# Altium schematic symbol library MCU_NXP_ColdFire.SchLib: 6 symbols
Pins are listed as number, name and electrical type; pins without a type are passive.

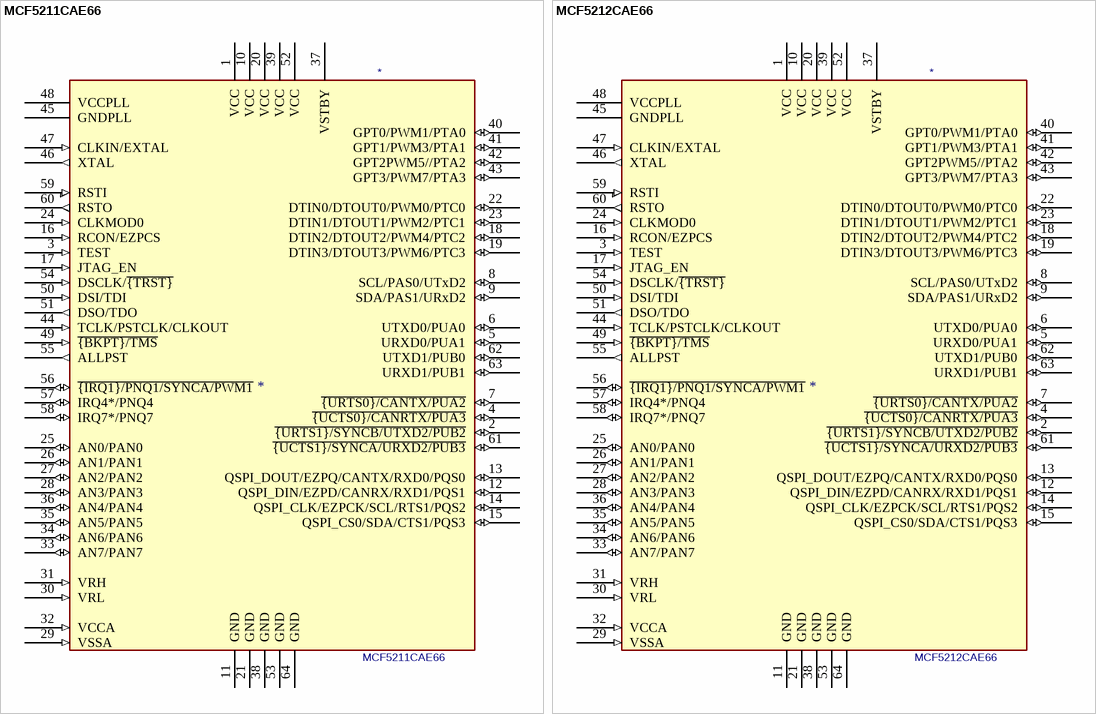
[diagram p0: symbols MCF5211CAE66 to MCF5212CAE66]

## MCF5211CAE66
designator *  value MCF5211CAE66
ki_keywords: MCU; ki_description: ColdFire Microcontroller, LQFP64; ki_fp_filters: LQFP*10x10mm*P0.5mm*; Footprint: Package_QFP:LQFP-64_10x10mm_P0.5mm; Supplier: https://www.nxp.com/docs/en/data-sheet/MCF5213EC.pdf
footprint LQFP-64_10x10mm_P0.5mm
pins: 1 VCC (power), 2 ~{{URTS1}/SYNCB/UTXD2/PUB2} (io), 3 TEST (in), 4 ~{{UCTS0}/CANRTX/PUA3} (io), 5 URXD0/PUA1 (io), 6 UTXD0/PUA0 (io), 7 ~{{URTS0}/CANTX/PUA2} (io), 8 SCL/PAS0/UTxD2 (io), 9 SDA/PAS1/URxD2 (io), 10 VCC (power), 11 GND (power), 12 QSPI_DIN/EZPD/CANRX/RXD1/PQS1 (io), 13 QSPI_DOUT/EZPQ/CANTX/RXD0/PQS0 (io), 14 QSPI_CLK/EZPCK/SCL/RTS1/PQS2 (io), 15 QSPI_CS0/SDA/CTS1/PQS3 (io), 16 RCON/EZPCS (in), 17 JTAG_EN (in), 18 DTIN2/DTOUT2/PWM4/PTC2 (io), 19 DTIN3/DTOUT3/PWM6/PTC3 (io), 20 VCC (power), 21 GND (power), 22 DTIN0/DTOUT0/PWM0/PTC0 (io), 23 DTIN1/DTOUT1/PWM2/PTC1 (io), 24 CLKMOD0 (in), 25 AN0/PAN0 (io), 26 AN1/PAN1 (io), 27 AN2/PAN2 (io), 28 AN3/PAN3 (io), 29 VSSA (in), 30 VRL (in), 31 VRH (in), 32 VCCA (in), 33 AN7/PAN7 (io), 34 AN6/PAN6 (io), 35 AN5/PAN5 (io), 36 AN4/PAN4 (io), 37 VSTBY (power), 38 GND (power), 39 VCC (power), 40 GPT0/PWM1/PTA0 (io), 41 GPT1/PWM3/PTA1 (io), 42 GPT2PWM5//PTA2 (io), 43 GPT3/PWM7/PTA3 (io), 44 TCLK/PSTCLK/CLKOUT (in), 45 GNDPLL, 46 XTAL (out), 47 CLKIN/EXTAL (in), 48 VCCPLL, 49 ~{{BKPT}/TMS} (in), 50 DSI/TDI (in), 51 DSO/TDO (out), 52 VCC (power), 53 GND (power), 54 DSCLK/~{{TRST}} (in), 55 ALLPST (out), 56 ~{{IRQ1}/PNQ1/SYNCA/PWM1} (io), 57 IRQ4*/PNQ4 (io), 58 IRQ7*/PNQ7 (io), 59 RSTI (in), 60 RSTO (out), 61 ~{{UCTS1}/SYNCA/URXD2/PUB3} (io), 62 UTXD1/PUB0 (io), 63 URXD1/PUB1 (io), 64 GND (power)

## MCF5212CAE66
designator *  value MCF5212CAE66
ki_keywords: MCU; ki_description: ColdFire Microcontroller, LQFP64; ki_fp_filters: LQFP*10x10mm*P0.5mm*; Footprint: Package_QFP:LQFP-64_10x10mm_P0.5mm; Supplier: https://www.nxp.com/docs/en/data-sheet/MCF5213EC.pdf
footprint LQFP-64_10x10mm_P0.5mm
pins: 1 VCC (power), 2 ~{{URTS1}/SYNCB/UTXD2/PUB2} (io), 3 TEST (in), 4 ~{{UCTS0}/CANRTX/PUA3} (io), 5 URXD0/PUA1 (io), 6 UTXD0/PUA0 (io), 7 ~{{URTS0}/CANTX/PUA2} (io), 8 SCL/PAS0/UTxD2 (io), 9 SDA/PAS1/URxD2 (io), 10 VCC (power), 11 GND (power), 12 QSPI_DIN/EZPD/CANRX/RXD1/PQS1 (io), 13 QSPI_DOUT/EZPQ/CANTX/RXD0/PQS0 (io), 14 QSPI_CLK/EZPCK/SCL/RTS1/PQS2 (io), 15 QSPI_CS0/SDA/CTS1/PQS3 (io), 16 RCON/EZPCS (in), 17 JTAG_EN (in), 18 DTIN2/DTOUT2/PWM4/PTC2 (io), 19 DTIN3/DTOUT3/PWM6/PTC3 (io), 20 VCC (power), 21 GND (power), 22 DTIN0/DTOUT0/PWM0/PTC0 (io), 23 DTIN1/DTOUT1/PWM2/PTC1 (io), 24 CLKMOD0 (in), 25 AN0/PAN0 (io), 26 AN1/PAN1 (io), 27 AN2/PAN2 (io), 28 AN3/PAN3 (io), 29 VSSA (in), 30 VRL (in), 31 VRH (in), 32 VCCA (in), 33 AN7/PAN7 (io), 34 AN6/PAN6 (io), 35 AN5/PAN5 (io), 36 AN4/PAN4 (io), 37 VSTBY (power), 38 GND (power), 39 VCC (power), 40 GPT0/PWM1/PTA0 (io), 41 GPT1/PWM3/PTA1 (io), 42 GPT2PWM5//PTA2 (io), 43 GPT3/PWM7/PTA3 (io), 44 TCLK/PSTCLK/CLKOUT (in), 45 GNDPLL, 46 XTAL (out), 47 CLKIN/EXTAL (in), 48 VCCPLL, 49 ~{{BKPT}/TMS} (in), 50 DSI/TDI (in), 51 DSO/TDO (out), 52 VCC (power), 53 GND (power), 54 DSCLK/~{{TRST}} (in), 55 ALLPST (out), 56 ~{{IRQ1}/PNQ1/SYNCA/PWM1} (io), 57 IRQ4*/PNQ4 (io), 58 IRQ7*/PNQ7 (io), 59 RSTI (in), 60 RSTO (out), 61 ~{{UCTS1}/SYNCA/URXD2/PUB3} (io), 62 UTXD1/PUB0 (io), 63 URXD1/PUB1 (io), 64 GND (power)

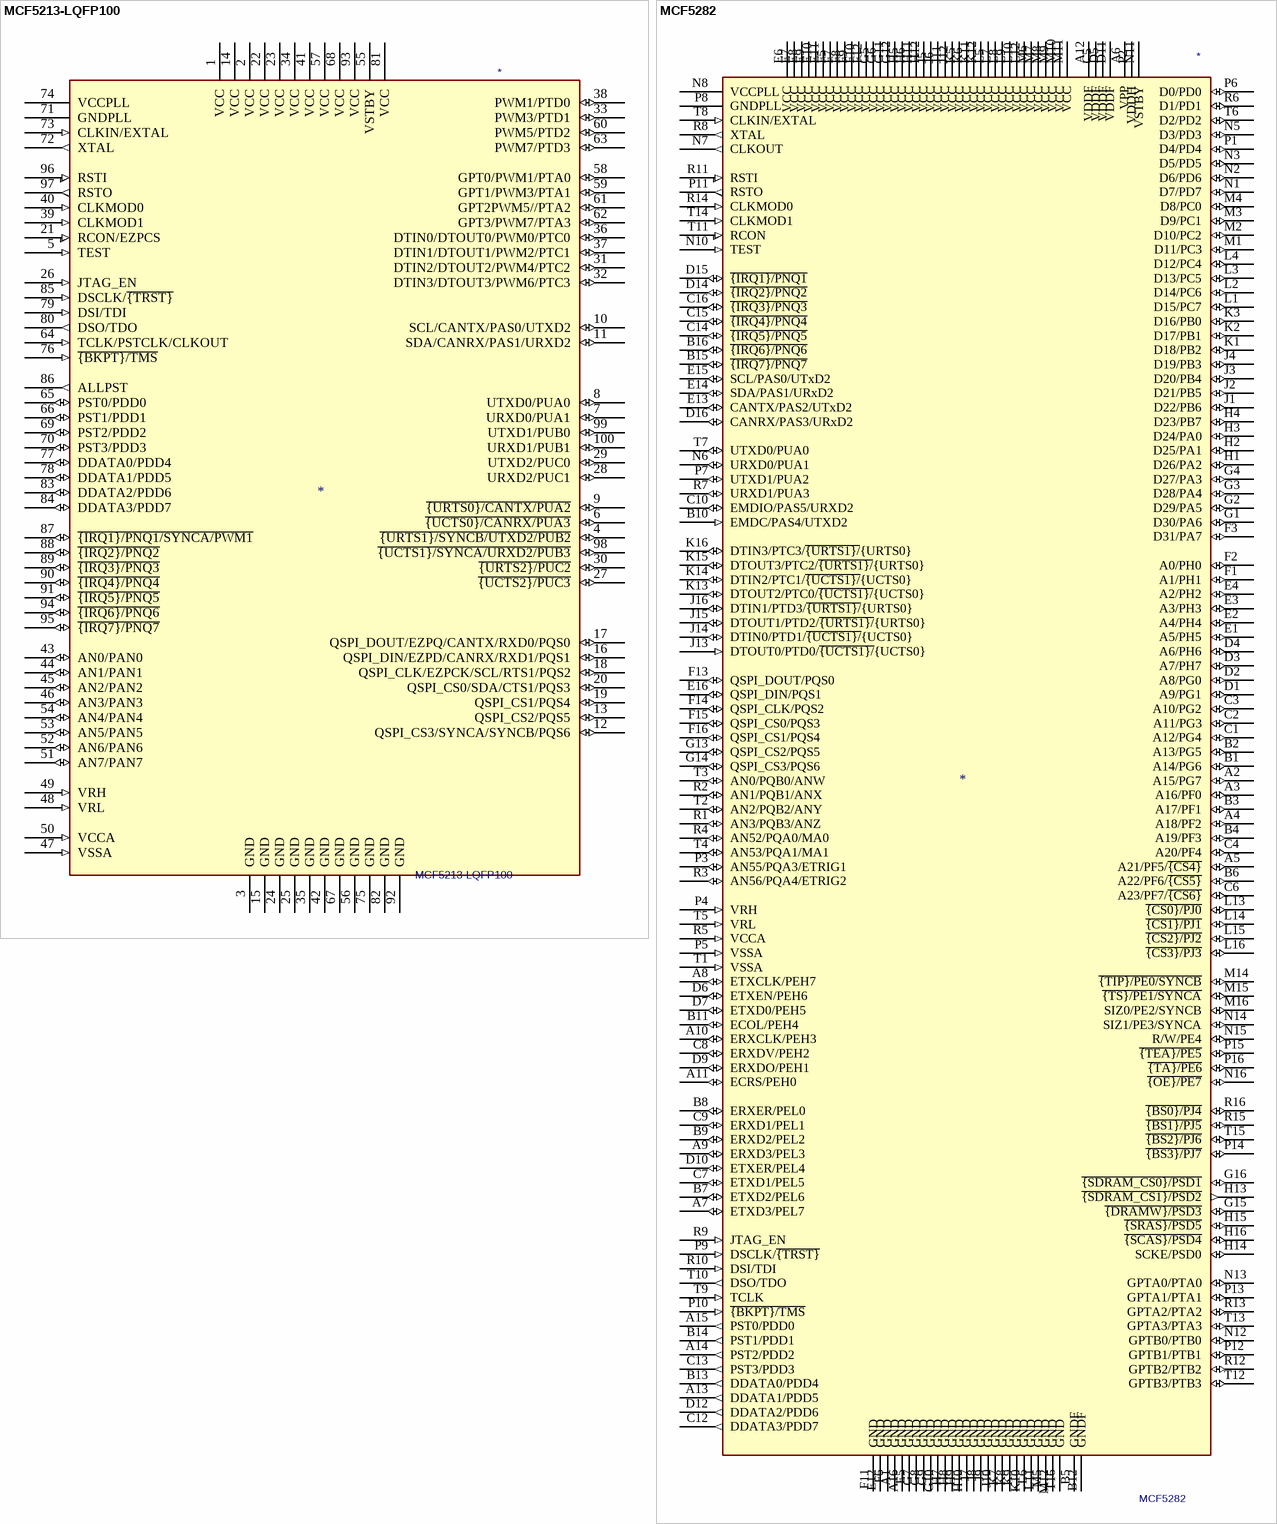
[diagram p1: symbols MCF5213-LQFP100 to MCF5282]

## MCF5213-LQFP100
designator *  value MCF5213-LQFP100
ki_keywords: COLDFIRE; ki_description: Coldfire with SRAM and Flash Eprom - LQFP100 package
pins: 1 VCC (power), 2 VCC (power), 3 GND (power), 4 ~{{URTS1}/SYNCB/UTXD2/PUB2} (io), 5 TEST (in), 6 ~{{UCTS0}/CANRX/PUA3} (io), 7 URXD0/PUA1 (io), 8 UTXD0/PUA0 (io), 9 ~{{URTS0}/CANTX/PUA2} (io), 10 SCL/CANTX/PAS0/UTXD2 (io), 11 SDA/CANRX/PAS1/URXD2 (io), 12 QSPI_CS3/SYNCA/SYNCB/PQS6 (io), 13 QSPI_CS2/PQS5 (io), 14 VCC (power), 15 GND (power), 16 QSPI_DIN/EZPD/CANRX/RXD1/PQS1 (io), 17 QSPI_DOUT/EZPQ/CANTX/RXD0/PQS0 (io), 18 QSPI_CLK/EZPCK/SCL/RTS1/PQS2 (io), 19 QSPI_CS1/PQS4 (io), 20 QSPI_CS0/SDA/CTS1/PQS3 (io), 21 RCON/EZPCS (in), 22 VCC (power), 23 VCC (power), 24 GND (power), 25 GND (power), 26 JTAG_EN (in), 27 ~{{UCTS2}/PUC3} (io), 28 URXD2/PUC1 (io), 29 UTXD2/PUC0 (io), 30 ~{{URTS2}/PUC2} (io), 31 DTIN2/DTOUT2/PWM4/PTC2 (io), 32 DTIN3/DTOUT3/PWM6/PTC3 (io), 33 PWM3/PTD1 (io), 34 VCC (power), 35 GND (power), 36 DTIN0/DTOUT0/PWM0/PTC0 (io), 37 DTIN1/DTOUT1/PWM2/PTC1 (io), 38 PWM1/PTD0 (io), 39 CLKMOD1 (in), 40 CLKMOD0 (in), 41 VCC (power), 42 GND (power), 43 AN0/PAN0 (io), 44 AN1/PAN1 (io), 45 AN2/PAN2 (io), 46 AN3/PAN3 (io), 47 VSSA (in), 48 VRL (in), 49 VRH (in), 50 VCCA (in), 51 AN7/PAN7 (io), 52 AN6/PAN6 (io), 53 AN5/PAN5 (io), 54 AN4/PAN4 (io), 55 VSTBY (power), 56 GND (power), 57 VCC (power), 58 GPT0/PWM1/PTA0 (io), 59 GPT1/PWM3/PTA1 (io), 60 PWM5/PTD2 (io), 61 GPT2PWM5//PTA2 (io), 62 GPT3/PWM7/PTA3 (io), 63 PWM7/PTD3 (io), 64 TCLK/PSTCLK/CLKOUT (in), 65 PST0/PDD0 (io), 66 PST1/PDD1 (io), 67 GND (power), 68 VCC (power), 69 PST2/PDD2 (io), 70 PST3/PDD3 (io), 71 GNDPLL, 72 XTAL (out), 73 CLKIN/EXTAL (in), 74 VCCPLL, 75 GND (power), 76 ~{{BKPT}/TMS} (in), 77 DDATA0/PDD4 (io), 78 DDATA1/PDD5 (io), 79 DSI/TDI (in), 80 DSO/TDO (out), 81 VCC (power), 82 GND (power), 83 DDATA2/PDD6 (io), 84 DDATA3/PDD7 (io), 85 DSCLK/~{{TRST}} (in), 86 ALLPST (out), 87 ~{{IRQ1}/PNQ1/SYNCA/PWM1} (io), 88 ~{{IRQ2}/PNQ2} (io), 89 ~{{IRQ3}/PNQ3} (io), 90 ~{{IRQ4}/PNQ4} (io), 91 ~{{IRQ5}/PNQ5} (io), 92 GND (power), 93 VCC (power), 94 ~{{IRQ6}/PNQ6} (io), 95 ~{{IRQ7}/PNQ7} (io), 96 RSTI (in), 97 RSTO (out), 98 ~{{UCTS1}/SYNCA/URXD2/PUB3} (io), 99 UTXD1/PUB0 (io), 100 URXD1/PUB1 (io)

## MCF5282
designator *  value MCF5282
ki_keywords: COLDFIRE; ki_description: Coldfire with SRAM and Flash Eprom
pins: A1 GND (power), A2 A15/PG7 (io), A3 A16/PF0 (io), A4 A18/PF2 (io), A5 A21/PF5/~{{CS4}} (io), A6 VPP (power), A7 ETXD3/PEL7 (io), A8 ETXCLK/PEH7 (io), A9 ERXD3/PEL3 (io), A10 ERXCLK/PEH3 (io), A11 ECRS/PEH0 (io), A12 VDDF (power), A13 DDATA1/PDD5 (out), A14 PST2/PDD2 (out), A15 PST0/PDD0 (out), A16 GND (power), B1 A14/PG6 (io), B2 A13/PG5 (io), B3 A17/PF1 (io), B4 A19/PF3 (io), B5 GNDF, B6 A22/PF6/~{{CS5}} (io), B7 ETXD2/PEL6 (io), B8 ERXER/PEL0 (io), B9 ERXD2/PEL2 (io), B10 EMDC/PAS4/UTXD2 (in), B11 ECOL/PEH4 (io), B12 GNDF (power), B13 DDATA0/PDD4 (out), B14 PST1/PDD1 (out), B15 ~{{IRQ7}/PNQ7} (io), B16 ~{{IRQ6}/PNQ6} (io), C1 A12/PG4 (io), C2 A11/PG3 (io), C3 A10/PG2 (io), C4 A20/PF4 (io), C5 VDDF (power), C6 A23/PF7/~{{CS6}} (io), C7 ETXD1/PEL5 (io), C8 ERXDV/PEH2 (io), C9 ERXD1/PEL1 (io), C10 EMDIO/PAS5/URXD2 (io), C12 DDATA3/PDD7 (out), C13 PST3/PDD3 (out), C14 ~{{IRQ5}/PNQ5} (io), C15 ~{{IRQ4}/PNQ4} (io), C16 ~{{IRQ3}/PNQ3} (io), D1 A9/PG1 (io), D2 A8/PG0 (io), D3 A7/PH7 (io), D4 A6/PH6 (io), D5 VDDF (power), D6 ETXEN/PEH6 (io), D7 ETXD0/PEH5 (io), D9 ERXDO/PEH1 (io), D10 ETXER/PEL4 (io), D11 VDDF (power), D12 DDATA2/PDD6 (out), D14 ~{{IRQ2}/PNQ2} (io), D15 ~{{IRQ1}/PNQ1} (io), D16 CANRX/PAS3/URxD2 (io), E1 A5/PH5 (io), E2 A4/PH4 (io), E3 A3/PH3 (io), E4 A2/PH2 (io), E5 GND (power), E6 VCC (power), E7 VCC (power), E8 VCC (power), E9 VCC (power), E10 VCC (power), E11 VCC (power), E12 GND (power), E13 CANTX/PAS2/UTxD2 (io), E14 SDA/PAS1/URxD2 (io), E15 SCL/PAS0/UTxD2 (io), E16 QSPI_DIN/PQS1 (io), F1 A1/PH1 (io), F2 A0/PH0 (io), F3 D31/PA7 (io), F5 VCC (power), F6 GND (power), F7 VCC (power), F8 VCC (power), F9 VCC (power), F10 VCC (power), F11 GND (power), F12 VCC (power), F13 QSPI_DOUT/PQS0 (io), F14 QSPI_CLK/PQS2 (io), F15 QSPI_CS0/PQS3 (io), F16 QSPI_CS1/PQS4 (io), G1 D30/PA6 (io), G2 D29/PA5 (io), G3 D28/PA4 (io), G4 D27/PA3 (io), G5 VCC (power), G6 VCC (power), G7 GND (power), G8 GND (power), G9 GND (power), G10 GND (power), G11 VCC (power), G12 VCC (power), G13 QSPI_CS2/PQS5 (io), G14 QSPI_CS3/PQS6 (io), G15 ~{{DRAMW}/PSD3} (io), G16 ~{{SDRAM_CS0}/PSD1} (io), H1 D26/PA2 (io), H2 D25/PA1 (io), H3 D24/PA0 (io), H4 D23/PB7 (io), H5 VCC (power), H6 VCC (power), H7 GND (power), H8 GND (power), H9 GND (power), H10 GND (power), H11 VCC (power), H12 VCC (power), H13 ~{{SDRAM_CS1}/PSD2} (out), H14 SCKE/PSD0 (io), H15 ~{{SRAS}/PSD5} (io), H16 ~{{SCAS}/PSD4} (io), J1 D22/PB6 (io), J2 D21/PB5 (io), J3 D20/PB4 (io), J4 D19/PB3 (io), J5 VCC (power), J6 VCC (power), J7 GND (power), J8 GND (power), J9 GND (power), J10 GND (power), J11 VCC (power), J12 VCC (power), J13 DTOUT0/PTD0/~{{UCTS1}/}{UCTS0} (in), J14 DTIN0/PTD1/~{{UCTS1}/}{UCTS0} (io), J15 DTOUT1/PTD2/~{{URTS1}/}{URTS0} (io), J16 DTIN1/PTD3/~{{URTS1}/}{URTS0} (io), K1 D18/PB2 (io), K2 D17/PB1 (io), K3 D16/PB0 (io), K5 VCC (power), K6 VCC (power), K7 GND (power), K8 GND (power), K9 GND (power), K10 GND (power), K11 VCC (power), K12 VCC (power), K13 DTOUT2/PTC0/~{{UCTS1}/}{UCTS0} (io), K14 DTIN2/PTC1/~{{UCTS1}/}{UCTS0} (io), K15 DTOUT3/PTC2/~{{URTS1}/}{URTS0} (io), K16 DTIN3/PTC3/~{{URTS1}/}{URTS0} (io), L1 D15/PC7 (io), L2 D14/PC6 (io), L3 D13/PC5 (io), L4 D12/PC4 (io), L5 VCC (power), L6 GND (power), L7 VCC (power), L8 VCC (power), L9 VCC (power), L10 VCC (power), L11 GND (power), L12 VCC (power), L13 ~{{CS0}/PJ0} (io), L14 ~{{CS1}/PJ1} (io), L15 ~{{CS2}/PJ2} (io), L16 ~{{CS3}/PJ3} (io), M1 D11/PC3 (io), M2 D10/PC2 (io), M3 D9/PC1 (io), M4 D8/PC0 (io), M5 GND (power), M6 VCC (power), M7 VCC (power), M8 VCC (power), M9 VCC (power), M10 VCC (power), M11 VCC (power), M12 GND (power), M14 ~{{TIP}/PE0/SYNCB} (io), M15 ~{{TS}/PE1/SYNCA} (io), M16 SIZ0/PE2/SYNCB (io), N1 D7/PD7 (io), N2 D6/PD6 (io), N3 D5/PD5 (io), N5 D3/PD3 (io), N6 URXD0/PUA1 (io), N7 CLKOUT (out), N8 VCCPLL, N10 TEST (in), N11 VSTBY (power), N12 GPTB0/PTB0 (io), N13 GPTA0/PTA0 (io), N14 SIZ1/PE3/SYNCA (io), N15 R/W/PE4 (io), N16 ~{{OE}/PE7} (io), P1 D4/PD4 (io), P2 VDDH (power), P3 AN55/PQA3/ETRIG1 (io), P4 VRH (in), P5 VSSA (in), P6 D0/PD0 (io), P7 UTXD1/PUA2 (io), P8 GNDPLL, P9 DSCLK/~{{TRST}} (in), P10 ~{{BKPT}/TMS} (in), P11 RSTO (out), P12 GPTB1/PTB1 (io), P13 GPTA1/PTA1 (io), P14 ~{{BS3}/PJ7} (io), P15 ~{{TEA}/PE5} (io), P16 ~{{TA}/PE6} (io), R1 AN3/PQB3/ANZ (io), R2 AN1/PQB1/ANX (io), R3 AN56/PQA4/ETRIG2 (io), R4 AN52/PQA0/MA0 (io), R5 VCCA (in), R6 D1/PD1 (io), R7 URXD1/PUA3 (io), R8 XTAL (out), R9 JTAG_EN (in), R10 DSI/TDI (in), R11 RSTI (in), R12 GPTB2/PTB2 (io), R13 GPTA2/PTA2 (io), R14 CLKMOD0 (in), R15 ~{{BS1}/PJ5} (io), R16 ~{{BS0}/PJ4} (io), T1 VSSA (in), T2 AN2/PQB2/ANY (io), T3 AN0/PQB0/ANW (io), T4 AN53/PQA1/MA1 (io), T5 VRL (in), T6 D2/PD2 (io), T7 UTXD0/PUA0 (io), T8 CLKIN/EXTAL (in), T9 TCLK (in), T10 DSO/TDO (out), T11 RCON (in), T12 GPTB3/PTB3 (io), T13 GPTA3/PTA3 (io), T14 CLKMOD1 (in), T15 ~{{BS2}/PJ6} (io), T16 GND (power)

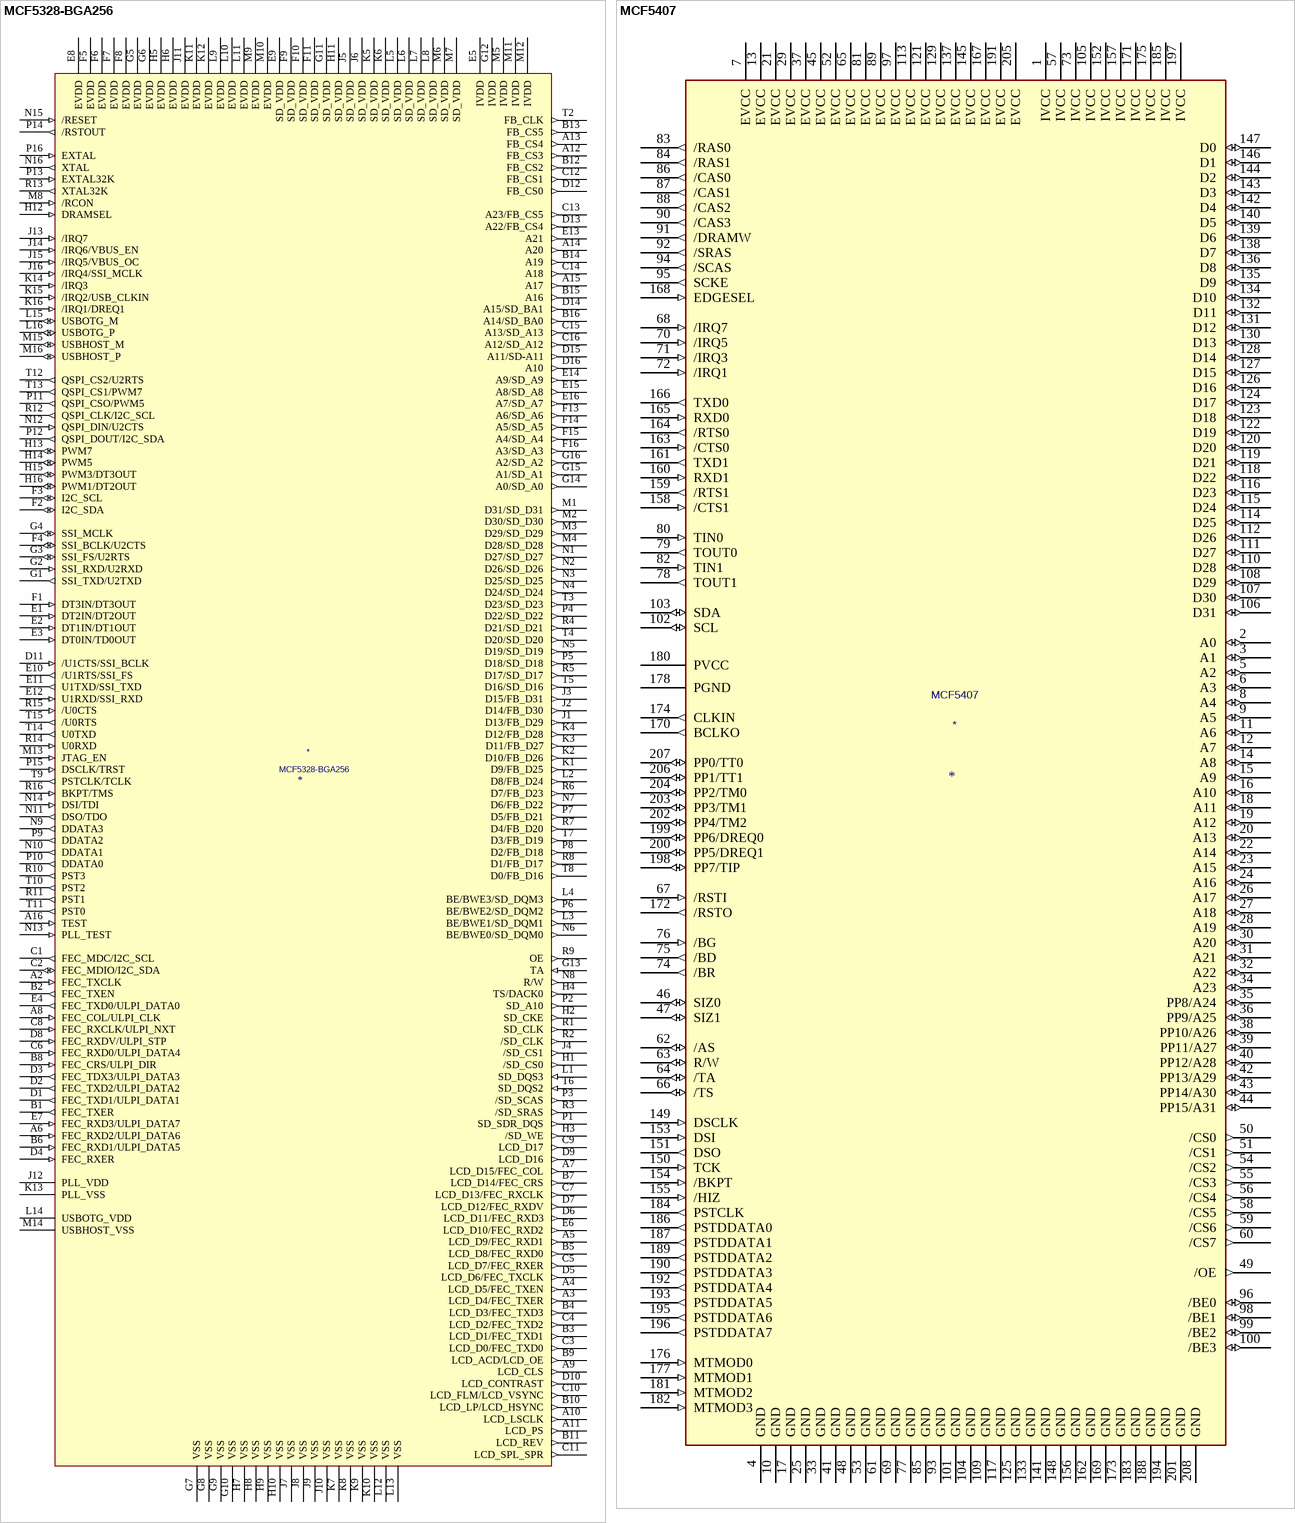
[diagram p2: symbols MCF5328-BGA256 to MCF5407]

## MCF5328-BGA256
designator *  value MCF5328-BGA256
pins: A2 FEC_TXCLK (in), A3 LCD_D4/FEC_TXER (out), A4 LCD_D5/FEC_TXEN (out), A5 LCD_D9/FEC_RXD1 (out), A6 FEC_RXD2/ULPI_DATA6 (in), A7 LCD_D15/FEC_COL (out), A8 FEC_COL/ULPI_CLK (in), A9 LCD_CLS (out), A10 LCD_LSCLK (out), A11 LCD_PS (out), A12 FB_CS3 (out), A13 FB_CS4 (out), A14 A20 (out), A15 A17 (out), A16 TEST (in), B1 FEC_TXER (out), B2 FEC_TXEN (out), B3 LCD_D1/FEC_TXD1 (out), B4 LCD_D3/FEC_TXD3 (out), B5 LCD_D8/FEC_RXD0 (out), B6 FEC_RXD1/ULPI_DATA5 (in), B7 LCD_D14/FEC_CRS (out), B8 FEC_CRS/ULPI_DIR (in), B9 LCD_ACD/LCD_OE (out), B10 LCD_LP/LCD_HSYNC (out), B11 LCD_REV (out), B12 FB_CS2 (out), B13 FB_CS5 (out), B14 A19 (out), B15 A16 (out), B16 A14/SD_BA0 (out), C1 FEC_MDC/I2C_SCL (out), C2 FEC_MDIO/I2C_SDA (io), C3 LCD_D0/FEC_TXD0 (out), C4 LCD_D2/FEC_TXD2 (out), C5 LCD_D7/FEC_RXER (out), C6 FEC_RXD0/ULPI_DATA4 (in), C7 LCD_D13/FEC_RXCLK (out), C8 FEC_RXCLK/ULPI_NXT (in), C9 LCD_D17 (out), C10 LCD_FLM/LCD_VSYNC (out), C11 LCD_SPL_SPR (out), C12 FB_CS1 (out), C13 A23/FB_CS5 (out), C14 A18 (out), C15 A13/SD_A13 (out), C16 A12/SD_A12 (out), D1 FEC_TXD1/ULPI_DATA1 (out), D2 FEC_TXD2/ULPI_DATA2 (out), D3 FEC_TDX3/ULPI_DATA3 (out), D4 FEC_RXER (in), D5 LCD_D6/FEC_TXCLK (out), D6 LCD_D11/FEC_RXD3 (out), D7 LCD_D12/FEC_RXDV (out), D8 FEC_RXDV/ULPI_STP (in), D9 LCD_D16 (out), D10 LCD_CONTRAST (out), D11 /U1CTS/SSI_BCLK (in), D12 FB_CS0 (out), D13 A22/FB_CS4 (out), D14 A15/SD_BA1 (out), D15 A11/SD-A11 (out), D16 A10 (out), E1 DT2IN/DT2OUT (in), E2 DT1IN/DT1OUT (in), E3 DT0IN/TD0OUT (in), E4 FEC_TXD0/ULPI_DATA0 (out), E5 IVDD (power), E6 LCD_D10/FEC_RXD2 (out), E7 FEC_RXD3/ULPI_DATA7 (in), E8 EVDD (power), E9 SD_VDD (power), E10 /U1RTS/SSI_FS (out), E11 U1TXD/SSI_TXD (out), E12 U1RXD/SSI_RXD (in), E13 A21 (out), E14 A9/SD_A9 (out), E15 A8/SD_A8 (out), E16 A7/SD_A7 (out), F1 DT3IN/DT3OUT (in), F2 I2C_SDA (io), F3 I2C_SCL (io), F4 SSI_BCLK/U2CTS (io), F5 EVDD (power), F6 EVDD (power), F7 EVDD (power), F8 EVDD (power), F9 SD_VDD (power), F10 SD_VDD (power), F11 SD_VDD (power), F13 A6/SD_A6 (out), F14 A5/SD_A5 (out), F15 A4/SD_A4 (out), F16 A3/SD_A3 (out), G1 SSI_TXD/U2TXD (out), G2 SSI_RXD/U2RXD (in), G3 SSI_FS/U2RTS (io), G4 SSI_MCLK (io), G5 EVDD (power), G6 EVDD (power), G7 VSS (power), G8 VSS (power), G9 VSS (power), G10 VSS (power), G11 SD_VDD (power), G12 IVDD (power), G13 TA (in), G14 A0/SD_A0 (out), G15 A1/SD_A1 (out), G16 A2/SD_A2 (out), H1 /SD_CS0 (out), H2 SD_CKE (out), H3 /SD_WE (out), H4 TS/DACK0 (out), H5 EVDD (power), H6 EVDD (power), H7 VSS (power), H8 VSS (power), H9 VSS (power), H10 VSS (power), H11 SD_VDD (power), H12 DRAMSEL (in), H13 PWM7 (io), H14 PWM5 (io), H15 PWM3/DT3OUT (io), H16 PWM1/DT2OUT (io), J1 D13/FB_D29 (out), J2 D14/FB_D30 (out), J3 D15/FB_D31 (out), J4 /SD_CS1 (out), J5 SD_VDD (power), J6 SD_VDD (power), J7 VSS (power), J8 VSS (power), J9 VSS (power), J10 VSS (power), J11 EVDD (power), J12 PLL_VDD (power), J13 /IRQ7 (in), J14 /IRQ6/VBUS_EN (in), J15 /IRQ5/VBUS_OC (in), J16 /IRQ4/SSI_MCLK (in), K1 D9/FB_D25 (out), K2 D10/FB_D26 (out), K3 D11/FB_D27 (out), K4 D12/FB_D28 (out), K5 SD_VDD (power), K6 SD_VDD (power), K7 VSS (power), K8 VSS (power), K9 VSS (power), K10 VSS (power), K11 EVDD (power), K12 EVDD (power), K13 PLL_VSS (power), K14 /IRQ3 (in), K15 /IRQ2/USB_CLKIN (in), K16 /IRQ1/DREQ1 (in), L1 SD_DQS3 (in), L2 D8/FB_D24 (out), L3 BE/BWE1/SD_DQM1 (out), L4 BE/BWE3/SD_DQM3 (out), L5 SD_VDD (power), L6 SD_VDD (power), L7 SD_VDD (power), L8 SD_VDD (power), L9 EVDD (power), L10 EVDD (power), L11 EVDD (power), L12 VSS (power), L13 VSS (power), L14 USBOTG_VDD (power), L15 USBOTG_M (io), L16 USBOTG_P (io), M1 D31/SD_D31 (out), M2 D30/SD_D30 (out), M3 D29/SD_D29 (out), M4 D28/SD_D28 (out), M5 IVDD (power), M6 SD_VDD (power), M7 SD_VDD (power), M8 /RCON (in), M9 EVDD (power), M10 EVDD (power), M11 IVDD (power), M12 IVDD (power), M13 JTAG_EN (in), M14 USBHOST_VSS (power), M15 USBHOST_M (io), M16 USBHOST_P (io), N1 D27/SD_D27 (out), N2 D26/SD_D26 (out), N3 D25/SD_D25 (out), N4 D24/SD_D24 (out), N5 D19/SD_D19 (out), N6 BE/BWE0/SD_DQM0 (out), N7 D6/FB_D22 (out), N8 R/W (out), N9 DDATA3 (out), N10 DDATA1 (out), N11 DSO/TDO (out), N12 QSPI_DIN/U2CTS (in), N13 PLL_TEST (in), N14 DSI/TDI (in), N15 /RESET (in), N16 XTAL (out), P1 SD_SDR_DQS (out), P2 SD_A10 (out), P3 /SD_SCAS (out), P4 D22/SD_D22 (out), P5 D18/SD_D18 (out), P6 BE/BWE2/SD_DQM2 (out), P7 D5/FB_D21 (out), P8 D2/FB_D18 (out), P9 DDATA2 (out), P10 DDATA0 (out), P11 QSPI_CSO/PWM5 (out), P12 QSPI_DOUT/I2C_SDA (out), P13 EXTAL32K (in), P14 /RSTOUT (out), P15 DSCLK/TRST (in), P16 EXTAL (in), R1 SD_CLK (out), R2 /SD_CLK (out), R3 /SD_SRAS (out), R4 D21/SD_D21 (out), R5 D17/SD_D17 (out), R6 D7/FB_D23 (out), R7 D4/FB_D20 (out), R8 D1/FB_D17 (out), R9 OE (out), R10 PST3 (out), R11 PST1 (out), R12 QSPI_CLK/I2C_SCL (out), R13 XTAL32K (out), R14 U0RXD (in), R15 /U0CTS (in), R16 BKPT/TMS (in), T2 FB_CLK (out), T3 D23/SD_D23 (out), T4 D20/SD_D20 (out), T5 D16/SD_D16 (out), T6 SD_DQS2 (in), T7 D3/FB_D19 (out), T8 D0/FB_D16 (out), T9 PSTCLK/TCLK (out), T10 PST2 (out), T11 PST0 (out), T12 QSPI_CS2/U2RTS (out), T13 QSPI_CS1/PWM7 (out), T14 U0TXD (out), T15 /U0RTS (out)

## MCF5407
designator *  value MCF5407
ki_keywords: COLDFIRE; ki_description: Coldfire CPU
pins: 1 IVCC (power), 2 A0 (io), 3 A1 (io), 4 GND (power), 5 A2 (io), 6 A3 (io), 7 EVCC (power), 8 A4 (io), 9 A5 (io), 10 GND (power), 11 A6 (io), 12 A7 (io), 13 EVCC (power), 14 A8 (io), 15 A9 (io), 16 A10 (io), 17 GND (power), 18 A11 (io), 19 A12 (io), 20 A13 (io), 21 EVCC (power), 22 A14 (io), 23 A15 (io), 24 A16 (io), 25 GND (power), 26 A17 (io), 27 A18 (io), 28 A19 (io), 29 EVCC (power), 30 A20 (io), 31 A21 (io), 32 A22 (io), 33 GND (power), 34 A23 (io), 35 PP8/A24 (io), 36 PP9/A25 (io), 37 EVCC (power), 38 PP10/A26 (io), 39 PP11/A27 (io), 40 PP12/A28 (io), 41 GND (power), 42 PP13/A29 (io), 43 PP14/A30 (io), 44 PP15/A31 (io), 45 EVCC (power), 46 SIZ0 (io), 47 SIZ1 (io), 48 GND (power), 49 /OE (out), 50 /CS0 (out), 51 /CS1 (out), 52 EVCC (power), 53 GND (power), 54 /CS2 (out), 55 /CS3 (out), 56 /CS4 (out), 57 IVCC (power), 58 /CS5 (out), 59 /CS6 (out), 60 /CS7 (out), 61 GND (power), 62 /AS (io), 63 R/W (io), 64 /TA (io), 65 EVCC (power), 66 /TS (io), 67 /RSTI (in), 68 /IRQ7 (in), 69 GND (power), 70 /IRQ5 (in), 71 /IRQ3 (in), 72 /IRQ1 (in), 73 IVCC (power), 74 /BR (out), 75 /BD (out), 76 /BG (in), 77 GND (power), 78 TOUT1 (out), 79 TOUT0 (out), 80 TIN0 (in), 81 EVCC (power), 82 TIN1 (in), 83 /RAS0 (out), 84 /RAS1 (out), 85 GND (power), 86 /CAS0 (out), 87 /CAS1 (out), 88 /CAS2 (out), 89 EVCC (power), 90 /CAS3 (out), 91 /DRAMW (out), 92 /SRAS (out), 93 GND (power), 94 /SCAS (out), 95 SCKE (out), 96 /BE0 (io), 97 EVCC (power), 98 /BE1 (io), 99 /BE2 (io), 100 /BE3 (io), 101 GND (power), 102 SCL (io), 103 SDA (io), 104 GND (power), 105 IVCC (power), 106 D31 (io), 107 D30 (io), 108 D29 (io), 109 GND (power), 110 D28 (io), 111 D27 (io), 112 D26 (io), 113 EVCC (power), 114 D25 (io), 115 D24 (io), 116 D23 (io), 117 GND (power), 118 D22 (io), 119 D21 (io), 120 D20 (io), 121 EVCC (power), 122 D19 (io), 123 D18 (io), 124 D17 (io), 125 GND (power), 126 D16 (io), 127 D15 (io), 128 D14 (io), 129 EVCC (power), 130 D13 (io), 131 D12 (io), 132 D11 (io), 133 GND (power), 134 D10 (io), 135 D9 (io), 136 D8 (io), 137 EVCC (power), 138 D7 (io), 139 D6 (io), 140 D5 (io), 141 GND (power), 142 D4 (io), 143 D3 (io), 144 D2 (io), 145 EVCC (power), 146 D1 (io), 147 D0 (io), 148 GND (power), 149 DSCLK (in), 150 TCK (in), 151 DSO (out), 152 IVCC (power), 153 DSI (in), 154 /BKPT (in), 155 /HIZ (in), 156 GND (power), 157 IVCC (power), 158 /CTS1 (in), 159 /RTS1 (out), 160 RXD1 (in), 161 TXD1 (out), 162 GND (power), 163 /CTS0 (in), 164 /RTS0 (out), 165 RXD0 (in), 166 TXD0 (out), 167 EVCC (power), 168 EDGESEL (in), 169 GND (power), 170 BCLKO (out), 171 IVCC (power), 172 /RSTO (out), 173 GND (power), 174 CLKIN (out), 175 IVCC (power), 176 MTMOD0 (in), 177 MTMOD1 (in), 178 PGND, 180 PVCC, 181 MTMOD2 (in), 182 MTMOD3 (in), 183 GND (power), 184 PSTCLK (out), 185 IVCC (power), 186 PSTDDATA0 (out), 187 PSTDDATA1 (out), 188 GND (power), 189 PSTDDATA2 (out), 190 PSTDDATA3 (out), 191 EVCC (power), 192 PSTDDATA4 (out), 193 PSTDDATA5 (out), 194 GND (power), 195 PSTDDATA6 (out), 196 PSTDDATA7 (out), 197 IVCC (power), 198 PP7/TIP (io), 199 PP6/DREQ0 (io), 200 PP5/DREQ1 (io), 201 GND (power), 202 PP4/TM2 (io), 203 PP3/TM1 (io), 204 PP2/TM0 (io), 205 EVCC (power), 206 PP1/TT1 (io), 207 PP0/TT0 (io), 208 GND (power)